# EAGLE library part PPRO_WING (library alvie)
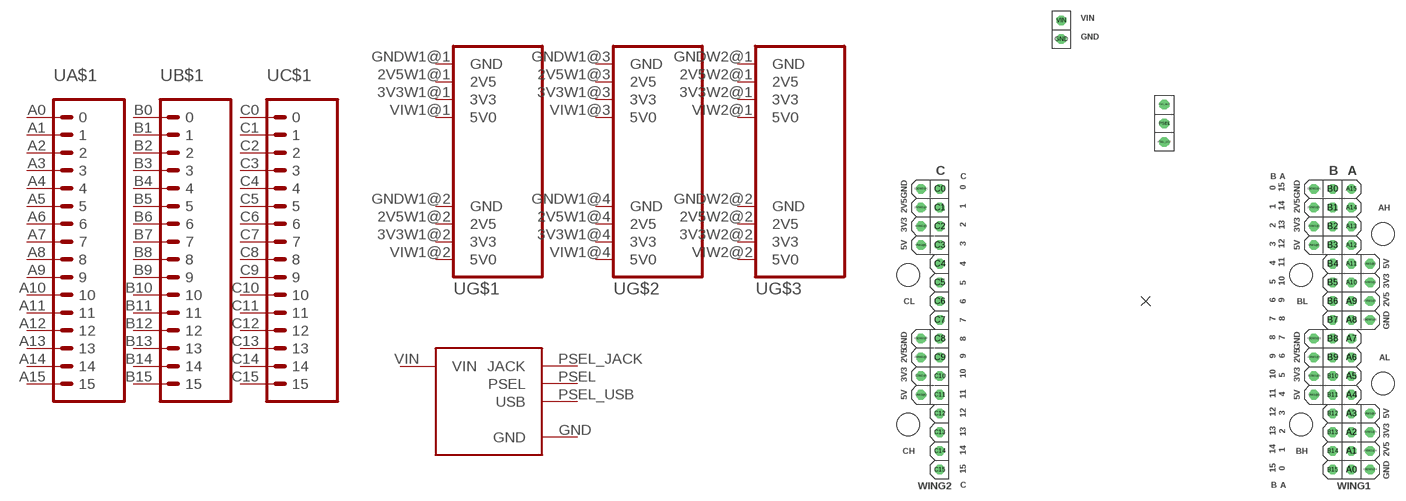
[diagram p47: symbol with the pads of PPRO_WING; footprint PPRO_WING]

Designator prefix -; gates A$1=WING16 B$1=WING16 C$1=WING16 G$1=WING16-PWR G$2=WING16-PWR G$3=WING16-PWR G$4=PPRO_PWR

## PPRO_WING  [PPRO_WING]
2V5W1@1  G$1:2V5  pas
2V5W1@2  G$1:2V5  pas
2V5W1@3  G$2:2V5  pas
2V5W1@4  G$2:2V5  pas
2V5W2@1  G$3:2V5  pas
2V5W2@2  G$3:2V5  pas
3V3W1@1  G$1:3V3  pas
3V3W1@2  G$1:3V3  pas
3V3W1@3  G$2:3V3  pas
3V3W1@4  G$2:3V3  pas
3V3W2@1  G$3:3V3  pas
3V3W2@2  G$3:3V3  pas
A0  A$1:0
A1  A$1:1
A2  A$1:2
A3  A$1:3
A4  A$1:4
A5  A$1:5
A6  A$1:6
A7  A$1:7
A8  A$1:8
A9  A$1:9
A10  A$1:10
A11  A$1:11
A12  A$1:12
A13  A$1:13
A14  A$1:14
A15  A$1:15
B0  B$1:0
B1  B$1:1
B2  B$1:2
B3  B$1:3
B4  B$1:4
B5  B$1:5
B6  B$1:6
B7  B$1:7
B8  B$1:8
B9  B$1:9
B10  B$1:10
B11  B$1:11
B12  B$1:12
B13  B$1:13
B14  B$1:14
B15  B$1:15
C0  C$1:0
C1  C$1:1
C2  C$1:2
C3  C$1:3
C4  C$1:4
C5  C$1:5
C6  C$1:6
C7  C$1:7
C8  C$1:8
C9  C$1:9
C10  C$1:10
C11  C$1:11
C12  C$1:12
C13  C$1:13
C14  C$1:14
C15  C$1:15
GND  G$4:GND  pwr
GNDW1@1  G$1:GND  pwr
GNDW1@2  G$1:GND  pwr
GNDW1@3  G$2:GND  pwr
GNDW1@4  G$2:GND  pwr
GNDW2@1  G$3:GND  pwr
GNDW2@2  G$3:GND  pwr
PSEL  G$4:PSEL  pas
PSEL_JACK  G$4:JACK  pas
PSEL_USB  G$4:USB  pas
VIN  G$4:VIN  pwr
VIW1@1  G$1:5V0  pas
VIW1@2  G$1:5V0  pas
VIW1@3  G$2:5V0  pas
VIW1@4  G$2:5V0  pas
VIW2@1  G$3:5V0  pas
VIW2@2  G$3:5V0  pas

## Footprint PPRO_WING (pad centres in mm)
drill 0.8 octagon: 2V5W1@1 22.86,12.7; 2V5W1@2 30.48,0; 2V5W1@3 22.86,-7.62; 2V5W1@4 30.48,-20.32; 2V5W2@1 -30.48,12.7; 2V5W2@2 -30.48,-7.62; 3V3W1@1 22.86,10.16; 3V3W1@2 30.48,2.54; 3V3W1@3 22.86,-10.16; 3V3W1@4 30.48,-17.78; 3V3W2@1 -30.48,10.16; 3V3W2@2 -30.48,-10.16; A0 27.94,-22.86; A1 27.94,-20.32; A2 27.94,-17.78; A3 27.94,-15.24; A4 27.94,-12.7; A5 27.94,-10.16; A6 27.94,-7.62; A7 27.94,-5.08; A8 27.94,-2.54; A9 27.94,0; A10 27.94,2.54; A11 27.94,5.08; A12 27.94,7.62; A13 27.94,10.16; A14 27.94,12.7; B0 25.4,15.24; B1 25.4,12.7; B2 25.4,10.16; B3 25.4,7.62; B4 25.4,5.08; B5 25.4,2.54; B6 25.4,0; B7 25.4,-2.54; B8 25.4,-5.08; B9 25.4,-7.62; B10 25.4,-10.16; B11 25.4,-12.7; B12 25.4,-15.24; B13 25.4,-17.78; B14 25.4,-20.32; B15 25.4,-22.86; C0 -27.94,15.24; C1 -27.94,12.7; C2 -27.94,10.16; C3 -27.94,7.62; C4 -27.94,5.08; C5 -27.94,2.54; C6 -27.94,0; C7 -27.94,-2.54; C8 -27.94,-5.08; C9 -27.94,-7.62; C10 -27.94,-10.16; C11 -27.94,-12.7; C12 -27.94,-15.24; C13 -27.94,-17.78; C14 -27.94,-20.32; C15 -27.94,-22.86; GND -11.43,35.56; GNDW1@1 22.86,15.24; GNDW1@2 30.48,-2.54; GNDW1@3 22.86,-5.08; GNDW1@4 30.48,-22.86; GNDW2@1 -30.48,15.24; GNDW2@2 -30.48,-5.08; PSEL 2.54,24.13; PSEL_JACK 2.54,26.67; PSEL_USB 2.54,21.59; VIN -11.43,38.1; VIW1@1 22.86,7.62; VIW1@2 30.48,5.08; VIW1@3 22.86,-12.7; VIW1@4 30.48,-15.24; VIW2@1 -30.48,7.62; VIW2@2 -30.48,-12.7
drill 0.8: A15 27.94,15.24
hole 3.048 at -32.258,3.556
hole 3.048 at -32.258,-16.764
hole 3.048 at 21.082,-16.764
hole 3.048 at 32.258,-11.176
hole 3.048 at 21.082,3.556
hole 3.048 at 32.258,9.144